# Altium footprint library Diode.PcbLib: 1 footprints
Each footprint in its own frame and in the unit in brackets; x right, y up, seen from the top. Pads: shape width x height; smd on the part's side, far side on the other; paste and mask are expansions set on the pad; w line width, h text height; cw(c..) or ccw(c..) is an arc to the next point about the centre after c.
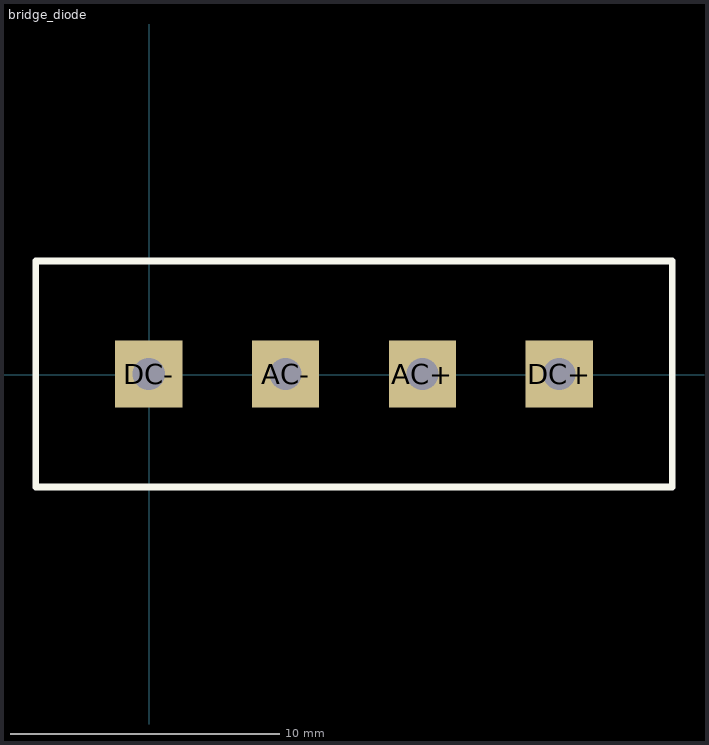
[diagram p0: the footprint, top view; thin cyan lines are the x and y axes]

## bridge_diode [mm]
pads (4):
  rect 2.5x2.5 hole 1.2: AC+(10.134,0.027) AC-(5.054,0.027) DC+(15.214,0.027) DC-(-0.026,0.027)
Top Overlay:
  lines w0.254: -4.217,-4.164 -4.217,4.218 19.405,4.218 19.405,-4.164 -4.217,-4.164
3D body "ASA_bridge diode.STEP": height 18.8, standoff -17.83, extent -3.429,-1.243 18.871,2.517